# Altium schematic symbol library AZ1117IH-3.SCHLIB: 1 symbol
Pins are listed as number, name and electrical type; pins without a type are passive.

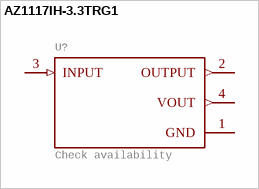
[diagram p0: symbol AZ1117IH-3.3TRG1]

## AZ1117IH-3.3TRG1
designator U?, comment Check availability
GateName_1: G$1; SymbolName_1: AZ1117IH-3.3TRG1; MF: Diodes Inc.; Description: Linear Voltage Regulator IC Positive Fixed 1 Output 1A SOT-223-3; LibraryName: AZ1117IH-3.3TRG1; DeviceSetName: AZ1117IH-3.3TRG1; Package: SOT230P700X185-4N; Package: SOT-223 Diodes Inc.; Price: None; Check_prices: https://www.snapeda.com/parts/AZ1117IH-3.3TRG1/Diodes+Inc./view-part/?ref=eda; SnapEDA_Link: https://www.snapeda.com/parts/AZ1117IH-3.3TRG1/Diodes+Inc./view-part/?ref=snap; MP: AZ1117IH-3.3TRG1; Availability: In Stock; Purchase-URL: https://www.snapeda.com/api/url_track_click_mouser/?unipart_id=490259&manufacturer=Diodes Inc.&part_name=AZ1117IH-3.3TRG1&search_term=az1117ih-3.3trg1
footprint SOT230P700X185-4N
pins: 1 GND (power), 2 OUTPUT (out), 3 INPUT (in), 4 VOUT (out)